# Altium schematic symbol library Instrumentation Amplifier Lib.SchLib: 2 symbols
Pins are listed as number, name and electrical type; pins without a type are passive.

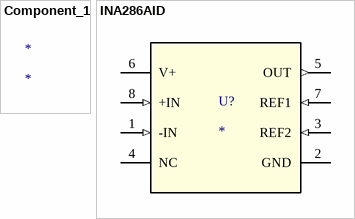
[diagram p0: symbols Component_1 to INA286AID]

## Component_1
designator *

## INA286AID
designator U?
No Description Available; PartNumber: INA286AIDR; Alternate_PartNumber: INA286AID; Manufacturer: Texas Instruments; CompType: IC; PIN_COUNT: 8; PackageReference: D0008A; MountType: SMT; RoHS: Y; RefDes: RefDes; Type: DEV; Value: Value; Copyright: Copyright (C) 2018 Accelerated Designs. All rights reserved
footprint D0008A_N
pins: 1 -IN (in), 2 GND (power), 3 REF2 (in), 4 NC, 5 OUT (out), 6 V+ (power), 7 REF1 (in), 8 +IN (in)